# Altium footprint library SMD_Connectors.PcbLib: 21 footprints (part 2 of 2)
Each footprint in its own frame and in the unit in brackets; x right, y up, seen from the top. Pads: shape width x height; smd on the part's side, far side on the other; paste and mask are expansions set on the pad; w line width, h text height; cw(c..) or ccw(c..) is an arc to the next point about the centre after c.
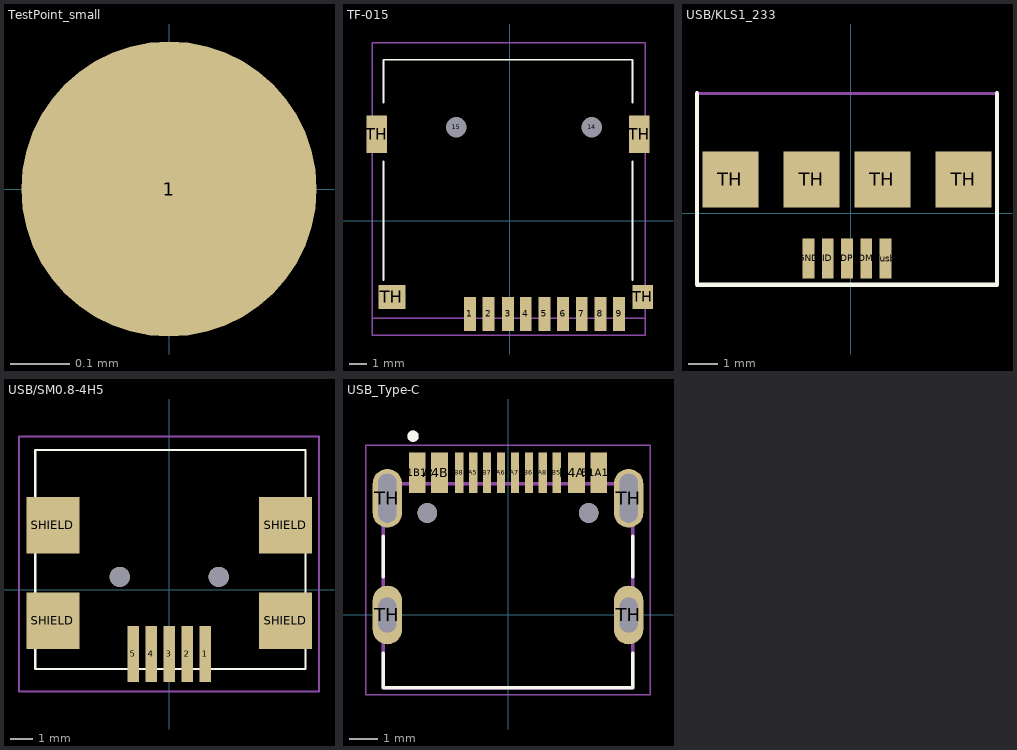
[diagram p1: the footprints below, top view; thin cyan lines are the x and y axes]

## TestPoint_small [mm]
pads (1):
  round 0.5 smd mask-0.13: 1(0,0)

## TF-015 [mm]
pads (15):
  rect 0.7x2 smd: 1(-2.35,-5.504) 2(-1.25,-5.504) 3(-0.1,-5.504) 4(0.95,-5.504) 5(2.05,-5.504) 6(3.15,-5.504) 7(4.25,-5.504) 8(5.35,-5.504) 9(6.45,-5.504)
  round 0.6 hole 1.2 unplated: 14(4.85,5.504) 15(-3.15,5.504)
  rect 1.2x2.2 smd: TH(-7.85,5.104) TH(7.65,5.104)
  rect 1.6x1.4 smd: TH(-6.95,-4.496)
  rect 1.2x1.4 smd: TH(7.85,-4.496)
Top Overlay:
  lines w0.1: -7.45,-3.496 -7.45,3.504 ; -7.45,6.964 -7.45,9.504 7.25,9.504 7.25,6.964 ; 7.25,-3.496 7.25,3.504
Top Assembly:
  lines w0.1: -8.104,-5.75 8,-5.75 8,10.491 -8.104,10.491 -8.104,-5.75
Top Courtyard:
  lines w0.1: -8.104,-6.75 8,-6.75 8,10.491 -8.104,10.491 -8.104,-6.75
3D body "User Library-Socket-MicroSD.STEP": height 2.04, standoff -0.41, extent -8.1,-5.746 7.9,11.304

## USB/KLS1_233 [mm]
pads (9):
  rect 0.4x1.35 smd: DM(0.523,-1.526) DP(-0.127,-1.526) GND(-1.427,-1.526) ID(-0.777,-1.526) Vusb(1.173,-1.526)
  rect 1.9x1.9 smd: TH(-4.077,1.149) TH(-1.327,1.149) TH(1.073,1.149) TH(3.823,1.149)
Top Overlay:
  lines w0.15: -5.207,4.064 -5.207,-2.413 -3.81,-2.413 3.59,-2.413 4.953,-2.413 4.953,4.064
Top Assembly (Mech13):
  lines w0.1: -5.207,-2.413 -5.207,4.064 4.953,4.064 4.953,-2.413 -5.207,-2.413
3D body "zx62-b-5pa_33_.stp": height 2.78, standoff -0.17, extent -4.164,-1.526 3.91,4.074

## USB/SM0.8-4H5 [mm]
pads (11):
  rect 0.5x2.5 smd: 1(1.6,-2.862) 2(0.8,-2.862) 3(0,-2.862) 4(-0.8,-2.862) 5(-1.6,-2.862)
  rect 2.35x2.5 smd: SHIELD(-5.175,-1.388) SHIELD(-5.175,2.863) SHIELD(5.175,-1.388) SHIELD(5.175,2.863)
  round 0.9 hole 0.9: ""(-2.2,0.563) ""(2.2,0.563)
Top Overlay:
  lines w0.1: -5.961,-3.539 6.064,-3.539 6.064,6.211 -5.961,6.211 -5.961,-3.539
Top Assembly:
  lines w0.1: -6.686,-4.539 -6.686,6.811 6.664,6.811 6.664,-4.539 -6.686,-4.539
3D body "USBminiAB.stp": height 3.95, standoff 0, extent -5.025,-2.137 4.875,6.863

## USB_Type-C [mm]
pads (18):
  rect 0.6x1.45 smd: A1B12(-3.25,5.095) A4B9(-2.45,5.095) B1A12(3.25,5.095) B4A9(2.45,5.095)
  rect 0.3x1.45 smd: A5(-1.25,5.095) A6(-0.25,5.095) A7(0.25,5.095) A8(1.25,5.095) B5(1.75,5.095) B6(0.75,5.095) B7(-0.75,5.095) B8(-1.75,5.095)
  oval 1.05x2.1 hole 0.65 slot 1.25 at 90 deg: TH(-4.32,0) TH(4.32,0)
  oval 1.05x2.1 hole 0.65 slot 1.75 at 90 deg: TH(-4.32,4.18) TH(4.32,4.18)
  round 0.7 hole 0.7 unplated: ""(-2.89,3.65) ""(2.89,3.65)
Top Overlay:
  circle w0.2: c-3.4,6.4 r0.1
  lines w0.127: -4.47,-1.37 -4.47,-2.6 4.47,-2.6 4.47,-1.37 ; -4.47,1.37 -4.47,2.81 ; 4.47,1.37 4.47,2.81
Top Assembly (Mech13):
  circle w0.2: c-3.4,6.4 r0.1
  lines w0.127: -4.47,-2.6 -4.47,4.7 4.47,4.7 4.47,-2.6 -4.47,-2.6
Top Courtyard (Mech15):
  lines w0.05: -5.095,-2.85 -5.095,6.07 5.095,6.07 5.095,-2.85 -5.095,-2.85